# EAGLE library part LM25085 (library probox-parts)
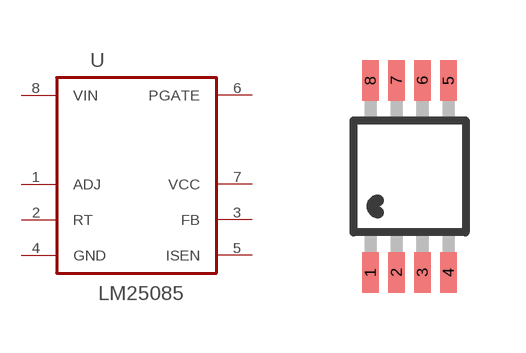
[diagram p1: symbol with the pads of MINI-SO8; footprint MINI-SO8]

Designator prefix U

## LM25085MME  [MINI-SO8]
1  ADJ  out
2  RT  out
3  FB  out
4  GND  pas
5  ISEN  out
6  PGATE  out
7  VCC  out
8  VIN  pwr

## Footprint MINI-SO8 (pad centres in mm)
smd 0.41 x 1.02: 1 -0.975,-2.4; 2 -0.325,-2.4; 3 0.325,-2.4; 4 0.975,-2.4; 5 0.975,2.4; 6 0.325,2.4; 7 -0.325,2.4; 8 -0.975,2.4